# Altium footprint library PcbLib.PcbLib: 19 footprints (part 2 of 2)
Each footprint in its own frame and in the unit in brackets; x right, y up, seen from the top. Pads: shape width x height; smd on the part's side, far side on the other; paste and mask are expansions set on the pad; w line width, h text height; cw(c..) or ccw(c..) is an arc to the next point about the centre after c.
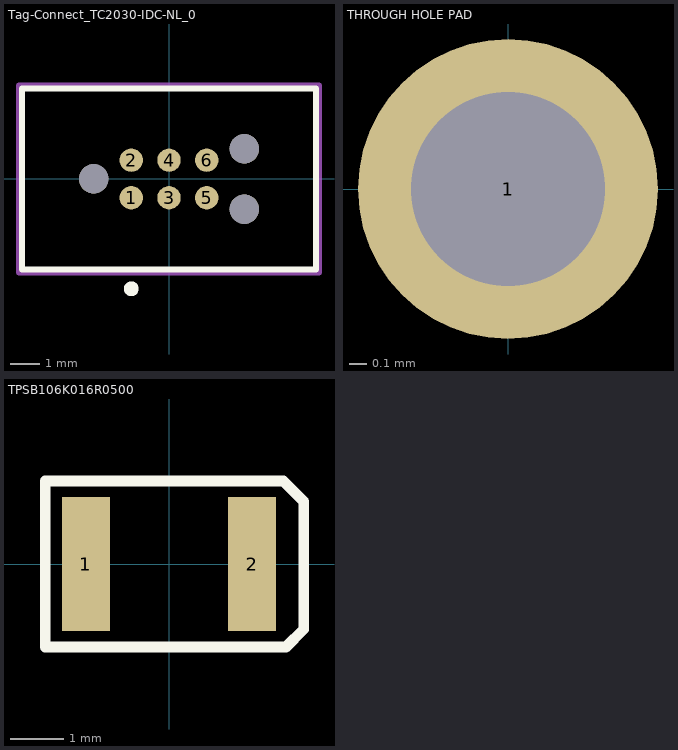
[diagram p1: the footprints below, top view; thin cyan lines are the x and y axes]

## Tag-Connect_TC2030-IDC-NL_0 [mil]
pads (9):
  round 30.98 smd paste-39370.1 mask+0: 1(-50,-25) 2(-50,25) 3(0,-25) 4(0,25) 5(50,-25) 6(50,25)
  round 39.02 hole 39.02 unplated paste-39370.1 mask+0: ""(-100,0) ""(100,-40) ""(100,40)
Top Overlay:
  circle w9.84: c-50,-145.67 r4.92
  lines w7.87: -195,-120 195,-120 195,120 -195,120 -195,-120
Mechanical 10:
  lines w7.87: -198.94,-123.94 198.94,-123.94 198.94,123.94 -198.94,123.94 -198.94,-123.94
Mechanical 12:
  lines w5.91: -195,-120 195,-120 195,120 -195,120 -195,-120
Mechanical 15:
  lines w7.87: -198.94,-123.94 198.94,-123.94 198.94,123.94 -198.94,123.94 -198.94,-123.94

## THROUGH HOLE PAD [mm]
pads (1):
  round 1.7 hole 1.1: 1(0,0)

## TPSB106K016R0500 [mm]
pads (2):
  rect 0.9x2.5 smd: 1(-1.55,0) 2(1.55,0)
Top Overlay:
  lines w0.2: -2.311,-1.549 2.184,-1.549 2.515,-1.219 2.515,1.168 2.134,1.549 -2.311,1.549 -2.311,-1.549
3D body "TPSB106K016R0800.STEP": height 2.11, standoff 0.01, extent -1.75,-1.4 1.75,1.4